# Altium footprint library SM_PW14-M.PcbLib: 1 footprints
Each footprint in its own frame and in the unit in brackets; x right, y up, seen from the top. Pads: shape width x height; smd on the part's side, far side on the other; paste and mask are expansions set on the pad; w line width, h text height; cw(c..) or ccw(c..) is an arc to the next point about the centre after c.
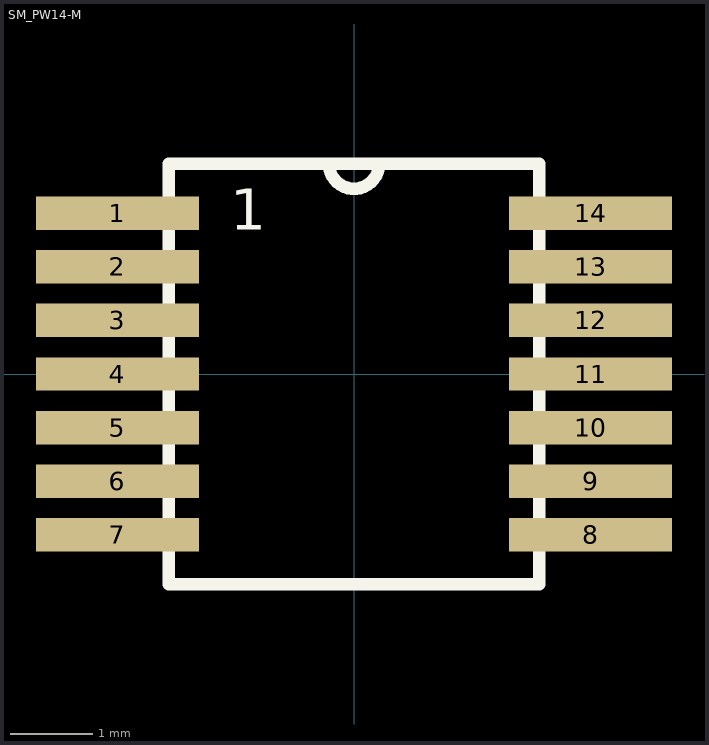
[diagram p0: the footprint, top view; thin cyan lines are the x and y axes]

## SM_PW14-M [mil]
pads (14):
  rect 78x16 smd: 1(-113,76.77) 2(-113,51.18) 3(-113,25.58) 4(-113,0) 5(-113,-25.58) 6(-113,-51.18) 7(-113,-76.77) 8(113,-76.77) 9(113,-51.18) 10(113,-25.58) 11(113,0) 12(113,25.58) 13(113,51.18) 14(113,76.77)
Top Overlay:
  lines w6: -12,100.5 ccw(c0,100.5) 12,100.5 ; -88.5,-100.5 88.5,-100.5 88.5,100.5 -88.5,100.5 -88.5,-100.5
  text "1" at -59,69 h19.68
Mechanical 1:
  lines w1: -12,100.5 ccw(c0,100.5) 12,100.5 ; -130,-82.77 -130,-70.77 -88.5,-70.77 -88.5,-82.77 -130,-82.77 ; -130,-57.18 -130,-45.18 -88.5,-45.18 -88.5,-57.18 -130,-57.18 ; -130,-31.58 -130,-19.58 -88.5,-19.58 -88.5,-31.58 -130,-31.58 ; -130,-6 -130,6 -88.5,6 -88.5,-6 -130,-6 ; -130,19.58 -130,31.58 -88.5,31.58 -88.5,19.58 -130,19.58 ; -130,45.18 -130,57.18 -88.5,57.18 -88.5,45.18 -130,45.18 ; -130,70.77 -130,82.77 -88.5,82.77 -88.5,70.77 -130,70.77 ; -88.5,-100.5 88.5,-100.5 88.5,100.5 -88.5,100.5 -88.5,-100.5 ; 88.5,-82.77 88.5,-70.77 130,-70.77 130,-82.77 88.5,-82.77 ; 88.5,-57.18 130,-57.18 130,-45.18 88.5,-45.18 88.5,-57.18 ; 88.5,-31.58 88.5,-19.58 130,-19.58 130,-31.58 88.5,-31.58 ; 88.5,-6 88.5,6 130,6 130,-6 88.5,-6 ; 88.5,19.58 88.5,31.58 130,31.58 130,19.58 88.5,19.58 ; 88.5,45.18 88.5,57.18 130,57.18 130,45.18 88.5,45.18 ; 88.5,70.77 88.5,82.77 130,82.77 130,70.77 88.5,70.77